# Altium schematic symbol library MB0006A.01.A.1.SchLib: 1 symbol
Pins are listed as number, name and electrical type; pins without a type are passive.

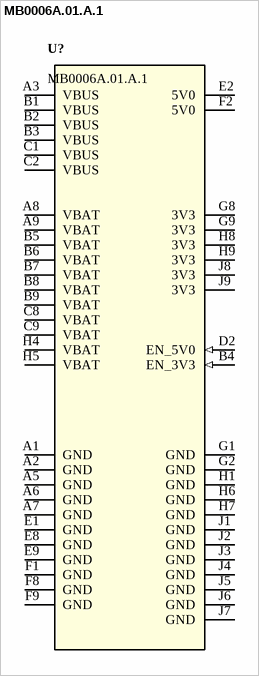
[diagram p0: symbol MB0006A.01.A.1]

## MB0006A.01.A.1
designator U?
MB0006A.01.A.1, Alkaline battery in, 5V and 3V3 out.
pins: A1 GND (power), A2 GND (power), A3 VBUS (power), A5 GND (power), A6 GND (power), A7 GND (power), A8 VBAT (power), A9 VBAT (power), B1 VBUS (power), B2 VBUS (power), B3 VBUS (power), B4 EN_3V3 (in), B5 VBAT (power), B6 VBAT (power), B7 VBAT (power), B8 VBAT (power), B9 VBAT (power), C1 VBUS (power), C2 VBUS (power), C8 VBAT (power), C9 VBAT (power), D2 EN_5V0 (in), E1 GND (power), E2 5V0 (power), E8 GND (power), E9 GND (power), F1 GND (power), F2 5V0 (power), F8 GND (power), F9 GND (power), G1 GND (power), G2 GND (power), G8 3V3 (power), G9 3V3 (power), H1 GND (power), H4 VBAT (power), H5 VBAT (power), H6 GND (power), H7 GND (power), H8 3V3 (power), H9 3V3 (power), J1 GND (power), J2 GND (power), J3 GND (power), J4 GND (power), J5 GND (power), J6 GND (power), J7 GND (power), J8 3V3 (power), J9 3V3 (power)